# EAGLE library part USB3751 (library microchip2)
USB 2.0 Protection IC with Battery Charger Detection
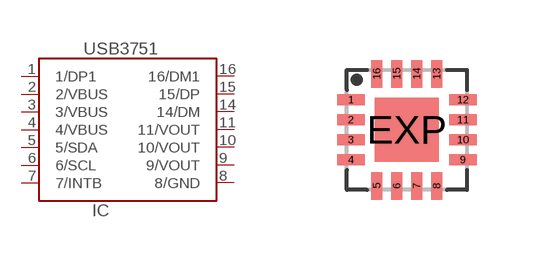
[diagram p246: symbol with the pads of QFN16; footprint QFN16]

Designator prefix IC

## USB3751  [QFN16]
1  1/DP1  in
2  2/VBUS  out
3  3/VBUS  out
4  4/VBUS  out
5  5/SDA
6  6/SCL  in
7  7/INTB  out
8  8/GND  pwr
9  9/VOUT  out
10  10/VOUT  out
11  11/VOUT  out
14  14/DM  out
15  15/DP  out
16  16/DM1  in

## Footprint QFN16 (pad centres in mm)
QFN 16 3x3 mm
smd 0.69 x 0.28: 1 -1.4,0.75; 2 -1.4,0.25; 3 -1.4,-0.25; 4 -1.4,-0.75; 9 1.4,-0.75; 10 1.4,-0.25; 11 1.4,0.25; 12 1.4,0.75
smd 0.28 x 0.69: 5 -0.75,-1.4; 6 -0.25,-1.4; 7 0.25,-1.4; 8 0.75,-1.4; 13 0.75,1.4; 14 0.25,1.4; 15 -0.25,1.4; 16 -0.75,1.4
smd 1.6 x 1.6: EXP 0,0